# Altium schematic symbol library SCH - SENSOR - CURRENT - TI INA236 YBJ-8.SCHLIB: 1 symbol
Pins are listed as number, name and electrical type; pins without a type are passive.

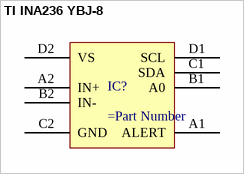
[diagram p0: symbol TI INA236 YBJ-8]

## TI INA236 YBJ-8
designator IC?
pins: A1 ALERT, A2 IN+, B1 A0, B2 IN-, C1 SDA, C2 GND, D1 SCL, D2 VS